# Altium footprint library 1-787082-8.PcbLib: 1 footprints
Each footprint in its own frame and in the unit in brackets; x right, y up, seen from the top. Pads: shape width x height; smd on the part's side, far side on the other; paste and mask are expansions set on the pad; w line width, h text height; cw(c..) or ccw(c..) is an arc to the next point about the centre after c.
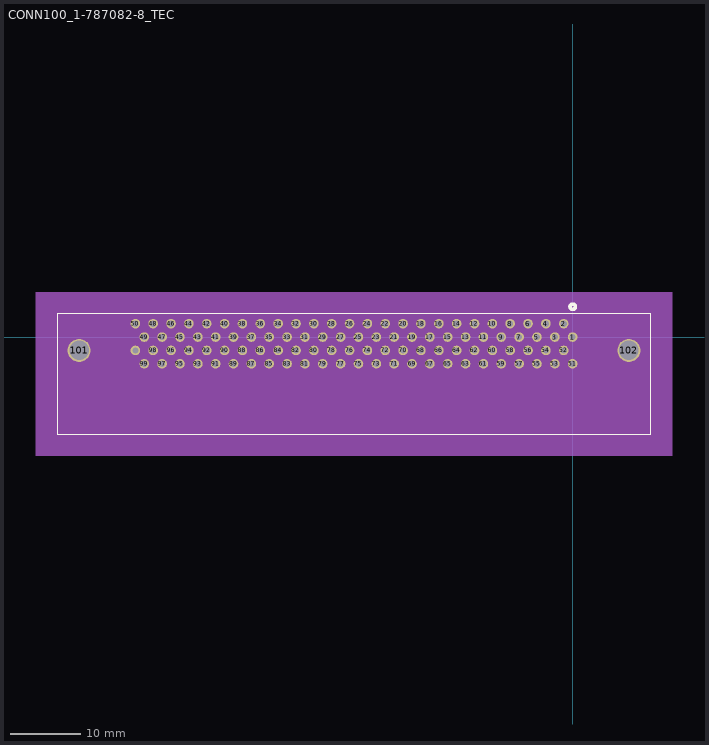
[diagram p0: the footprint, top view; thin cyan lines are the x and y axes]

## CONN100_1-787082-8_TEC [mil]
pads (102):
  round 53.86 hole 34 mask+0: 1(0,0) 2(-50,74.8) 3(-100,0) 4(-150,74.8) 5(-200,0) 6(-250,74.8) 7(-300,0) 8(-350,74.8) 9(-400,0) 10(-450,74.8) 11(-500,0) 12(-550,74.8) 13(-600,0) 14(-650,74.8) 15(-700,0) 16(-750,74.8) 17(-800,0) 18(-850,74.8) 19(-900,0) 20(-950,74.8) 21(-1000,0) 22(-1050,74.8) 23(-1100,0) 24(-1150,74.8) 25(-1200,0) 26(-1250,74.8) 27(-1300,0) 28(-1350,74.8) 29(-1400,0) 30(-1450,74.8) 31(-1500,0) 32(-1550,74.8) 33(-1600,0) 34(-1650,74.8) 35(-1700,0) 36(-1750,74.8) 37(-1800,0) 38(-1850,74.8) 39(-1900,0) 40(-1950,74.8) 41(-2000,0) 42(-2050,74.8) 43(-2100,0) 44(-2150,74.8) 45(-2200,0) 46(-2250,74.8) 47(-2300,0) 48(-2350,74.8) 49(-2400,0) 50(-2450,74.8) 51(0,-149.61) 52(-50,-74.8) 53(-100,-149.61) 54(-150,-74.8) 55(-200,-149.61) 56(-250,-74.8) 57(-300,-149.61) 58(-350,-74.8) 59(-400,-149.61) 60(-450,-74.8) 61(-500,-149.61) 62(-550,-74.8) 63(-600,-149.61) 64(-650,-74.8) 65(-700,-149.61) 66(-750,-74.8) 67(-800,-149.61) 68(-850,-74.8) 69(-900,-149.61) 70(-950,-74.8) 71(-1000,-149.61) 72(-1050,-74.8) 73(-1100,-149.61) 74(-1150,-74.8) 75(-1200,-149.61) 76(-1250,-74.8) 77(-1300,-149.61) 78(-1350,-74.8) 79(-1400,-149.61) 80(-1450,-74.8) 81(-1500,-149.61) 82(-1550,-74.8) 83(-1600,-149.61) 84(-1650,-74.8) 85(-1700,-149.61) 86(-1750,-74.8) 87(-1800,-149.61) 88(-1850,-74.8) 89(-1900,-149.61) 90(-1950,-74.8) 91(-2000,-149.61) 92(-2050,-74.8) 93(-2100,-149.61) 94(-2150,-74.8) 95(-2200,-149.61) 96(-2250,-74.8) 97(-2300,-149.61) 98(-2350,-74.8) 99(-2400,-149.61) 100(-2450,-74.8)
  round 128.74 hole 109: 101(-2764.96,-74.8) 102(314.96,-74.8)
Top Overlay:
  circle w20: c0,170 r15
  lines w6: -2887.48,-543.98 437.48,-543.98 437.48,130.2 -2887.48,130.2 -2887.48,-543.98
Bottom Overlay:
  circle w20: c0,170 r15
Mechanical 5:
  region: -3007.48,250.2 557.48,250.2 557.48,-663.98 -3007.48,-663.98
Mechanical 13:
  circle w20: c80,0 r15
  lines w1: -2992.13,-295.67 540,-295.67 ; -2882.48,-538.98 432.48,-538.98 432.48,125.2 -2882.48,125.2 -2882.48,-538.98
  text "PCB EDGE" at -261.81,-348.62 h50
Mechanical 15:
  region: 442.48,135.2 -2892.48,135.2 -2892.48,-548.98 442.48,-548.98
  lines w6: -2892.48,-548.98 -2892.48,135.2 442.48,135.2 442.48,-548.98 -2892.48,-548.98
3D body: height 10, standoff 0, extent 0,0 10,10